# Altium footprint library UDFN-8(2.0X3.0).PcbLib: 1 footprints
Each footprint in its own frame and in the unit in brackets; x right, y up, seen from the top. Pads: shape width x height; smd on the part's side, far side on the other; paste and mask are expansions set on the pad; w line width, h text height; cw(c..) or ccw(c..) is an arc to the next point about the centre after c.
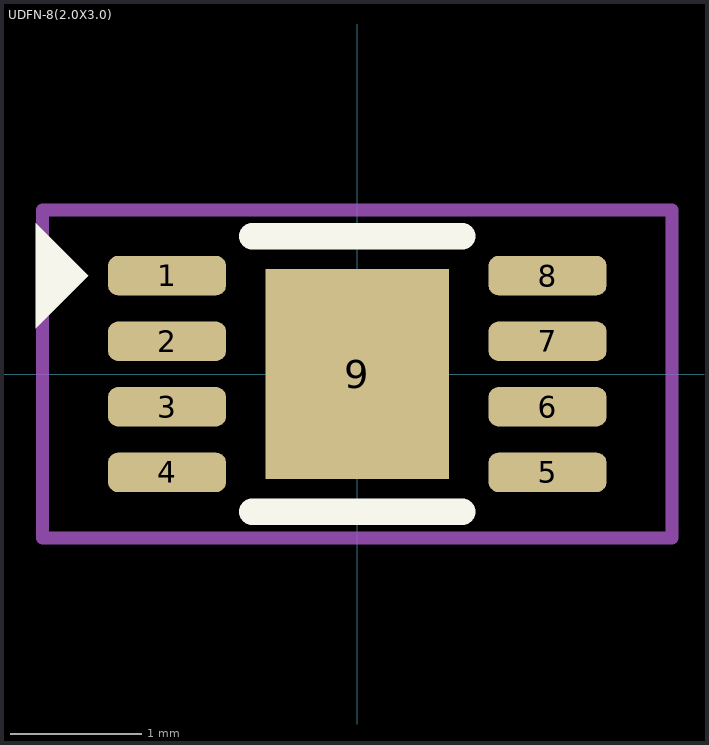
[diagram p0: the footprint, top view; thin cyan lines are the x and y axes]

## UDFN-8(2.0X3.0) [mm]
height 0.55
pads (9):
  rrect50% 0.9x0.3 smd: 1(-1.45,0.75) 2(-1.45,0.25) 3(-1.45,-0.25) 4(-1.45,-0.75) 5(1.45,-0.75) 6(1.45,-0.25) 7(1.45,0.25) 8(1.45,0.75)
  rect 1.4x1.6 smd: 9(0,0)
Top Overlay:
  region: -2.45,0.35 -2.45,1.15 -2.05,0.75
  lines w0.2: -0.8,-1.05 0.8,-1.05 ; -0.8,1.05 0.8,1.05
Top Courtyard:
  lines w0.1: -2.4,-1.25 2.4,-1.25 2.4,1.25 -2.4,1.25 -2.4,-1.25
3D body "ATSHA204A-MAHDA-T.STEP": height 0.58, standoff -0.02, extent -1.5,-1 1.5,1